# Altium footprint library 1-292303-1.PcbLib: 2 footprints
Each footprint in its own frame and in the unit in brackets; x right, y up, seen from the top. Pads: shape width x height; smd on the part's side, far side on the other; paste and mask are expansions set on the pad; w line width, h text height; cw(c..) or ccw(c..) is an arc to the next point about the centre after c.
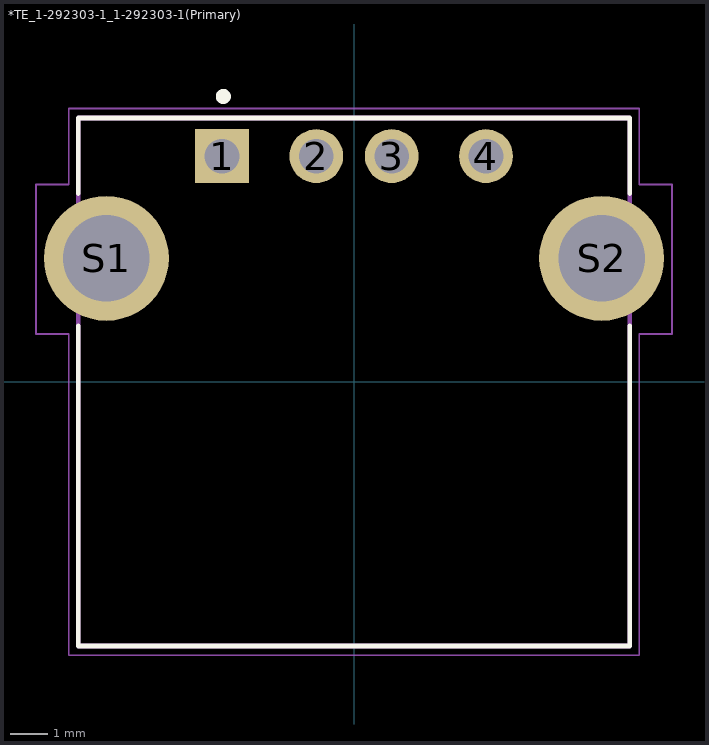
[diagram p0: the footprints below, top view; thin cyan lines are the x and y axes]

## *TE_1-292303-1_1-292303-1(Primary) [mm]
pads (6):
  rect 1.428x1.428 hole 0.92: 1(-3.5,5.99)
  round 1.428 hole 0.92: 2(-1,5.99) 3(1,5.99) 4(3.5,5.99)
  round 3.316 hole 2.3: S1(-6.57,3.28) S2(6.57,3.28)
Top Overlay:
  circle w0.2: c-3.466,7.573 r0.1
  lines w0.127: -7.315,1.49 -7.315,-7 7.315,-7 7.315,1.49 ; -7.315,5 -7.315,7 7.315,7 7.315,5
Mechanical 4:
  lines w0.127: -7.315,-7 7.315,-7 ; -7.315,-7 -7.315,7 ; -7.315,-7 7.315,-7 ; -7.315,-7 -7.315,7 ; -7.315,7 7.315,7 ; -7.315,7 7.315,7 ; 7.315,-7 7.315,7 ; 7.315,-7 7.315,7
Mechanical 16:
  lines w0.05: -8.44,1.27 -7.565,1.27 -7.565,-7.25 7.565,-7.25 7.565,1.27 8.44,1.27 8.44,5.24 7.565,5.24 7.565,7.25 -7.565,7.25 -7.565,5.24 -8.44,5.24 -8.44,1.27

## PCBComponent_1 [mm]